# EAGLE library part CP2102 (library silicon-labs)
USB TO UART BRIDGE
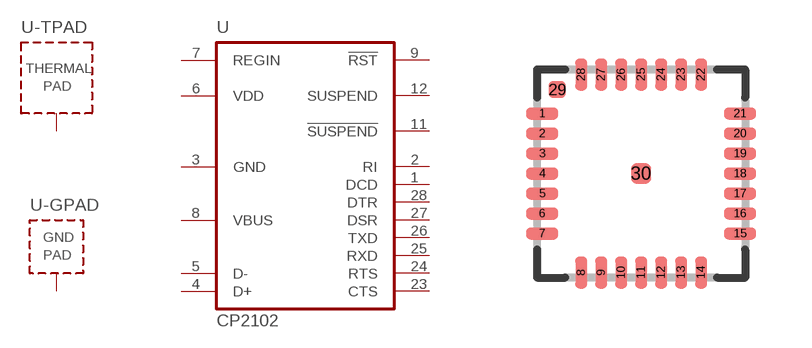
[diagram p0: symbol with the pads of QFN28; footprint QFN28]

Designator prefix U; gates A=CP2102 -TPAD=THERMAL-PAD -GPAD=GND-PAD

## CP2102  [QFN28]
1  A:DCD
2  A:RI
3  A:GND  pwr
4  A:D+
5  A:D-
6  A:VDD  pwr
7  A:REGIN  pwr
8  A:VBUS  in
9  A:!RST!
11  A:!SUSPEND!  out
12  A:SUSPEND  out
23  A:CTS
24  A:RTS  out
25  A:RXD
26  A:TXD  out
27  A:DSR
28  A:DTR  out
29  -GPAD:P$1  pas
30  -TPAD:P$1  pas

## Footprint QFN28 (pad centres in mm)
QFN28 5x5 mm body
smd 0.8 x 0.3: 1 -2.475,1.5; 2 -2.475,1; 3 -2.475,0.5; 4 -2.475,0; 5 -2.475,-0.5; 6 -2.475,-1; 7 -2.475,-1.5; 15 2.475,-1.5; 16 2.475,-1; 17 2.475,-0.5; 18 2.475,0; 19 2.475,0.5; 20 2.475,1; 21 2.475,1.5
smd 0.3 x 0.8: 8 -1.5,-2.475; 9 -1,-2.475; 10 -0.5,-2.475; 11 0,-2.475; 12 0.5,-2.475; 13 1,-2.475; 14 1.5,-2.475; 22 1.5,2.475; 23 1,2.475; 24 0.5,2.475; 25 0,2.475; 26 -0.5,2.475; 27 -1,2.475; 28 -1.5,2.475
smd 0.435 x 0.435: 29 -2.1,2.1
smd 0.5 x 0.5: 30 0,0